# EAGLE library part PI3B3253 (library AMH)
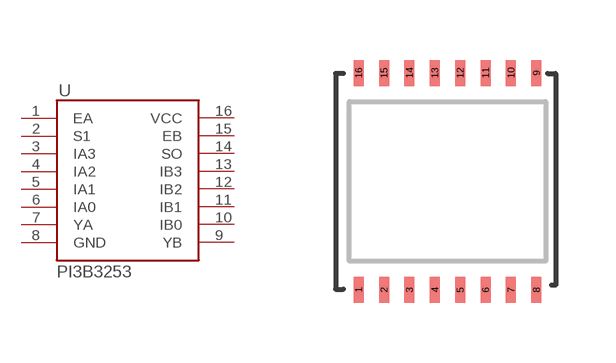
[diagram p2: symbol with the pads of 16-PIN_QSOP; footprint 16-PIN_QSOP]

Designator prefix -

## PI3B3253  [16-PIN_QSOP]
1  EA
2  S1
3  IA3
4  IA2
5  IA1
6  IA0
7  YA
8  GND
9  YB
10  IB0
11  IB1
12  IB2
13  IB3
14  SO
15  EB
16  VCC

## Footprint 16-PIN_QSOP (pad centres in mm)
smd 0.25 x 0.65: 1 -2.223,-2.715; 2 -1.587,-2.715; 3 -0.953,-2.715; 4 -0.318,-2.715; 5 0.318,-2.715; 6 0.953,-2.715; 7 1.587,-2.715; 8 2.223,-2.715; 9 2.223,2.715; 10 1.587,2.715; 11 0.953,2.715; 12 0.318,2.715; 13 -0.318,2.715; 14 -0.953,2.715; 15 -1.587,2.715; 16 -2.223,2.715